# Altium schematic symbol library LEEFI_Lib.SchLib: 15 symbols
Pins are listed as number, name and electrical type; pins without a type are passive.

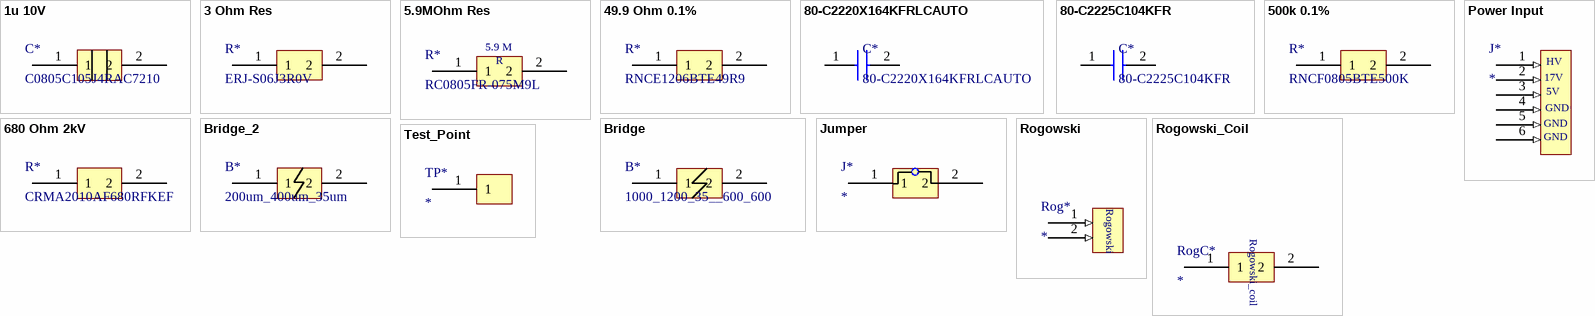
[diagram p0: symbols 1u 10V to Test_Point]

## 1u 10V
designator C*, comment C0805C105J4RAC7210
0805 Ceramic
footprint RESC2012X60N
pins: 1, 2

## 3 Ohm Res
designator R*, comment ERJ-S06J3R0V
3 Ohm 125mW 0805 (2012)
footprint RESC2012X60N
pins: 1, 2

## 5.9MOhm Res
designator R*, comment RC0805FR-075M9L
1% 1/8W
footprint RESC2012X60N
pins: 1, 2
text: 5.9 M; R

## 49.9 Ohm 0.1%
designator R*, comment RNCE1206BTE49R9
footprint RESC3216X60N (3216 (mm) resistor footprint)
pins: 1, 2

## 80-C2220X164KFRLCAUTO
designator C*
0.16uF / 1500V
footprint CAPC5750X280N
pins: 1, 2

## 80-C2225C104KFR
designator C*
0.1 uF / 1500V
footprint CAPC5750X280N
footprint CAPC5750X280N
pins: 1, 2

## 500k 0.1%
designator R*, comment RNCF0805BTE500K
footprint RESC2012X60N
pins: 1, 2

## 680 Ohm 2kV
designator R*, comment CRMA2010AF680RFKEF
500mW 1%
footprint RESC3216X65N
pins: 1, 2

## Bridge
designator B*, comment 1000_1200_35__600_600
1000um x 1200 um total, 600x600um inner bridge, 35 um 2 oz copper thickness
footprint PCBComponent_1
pins: 1, 2

## Bridge_2
designator B*, comment 200um_400um_35um
footprint Bridge_2 (200umL_400umW_35umT)
pins: 1, 2

## Jumper
designator J*
footprint Jumper
pins: 1, 2

## Power Input
designator J*
footprint Power Input
pins: 1 (in), 2 (in), 3 (in), 4 (in), 5 (in), 6 (in)
text: HV; 17V; 5V; GND

## Rogowski
designator Rog*
footprint Rogowski
pins: 1 (in), 2 (in)

## Rogowski_Coil
designator RogC*
footprint RogowskiCoil_Unrouted
pins: 1, 2
text: Rogowski_coil

## Test_Point
designator TP*
footprint TestPoint
pins: 1